# Altium footprint library PCB1.PcbLib: 43 footprints (part 3 of 3)
Each footprint in its own frame and in the unit in brackets; x right, y up, seen from the top. Pads: shape width x height; smd on the part's side, far side on the other; paste and mask are expansions set on the pad; w line width, h text height; cw(c..) or ccw(c..) is an arc to the next point about the centre after c.
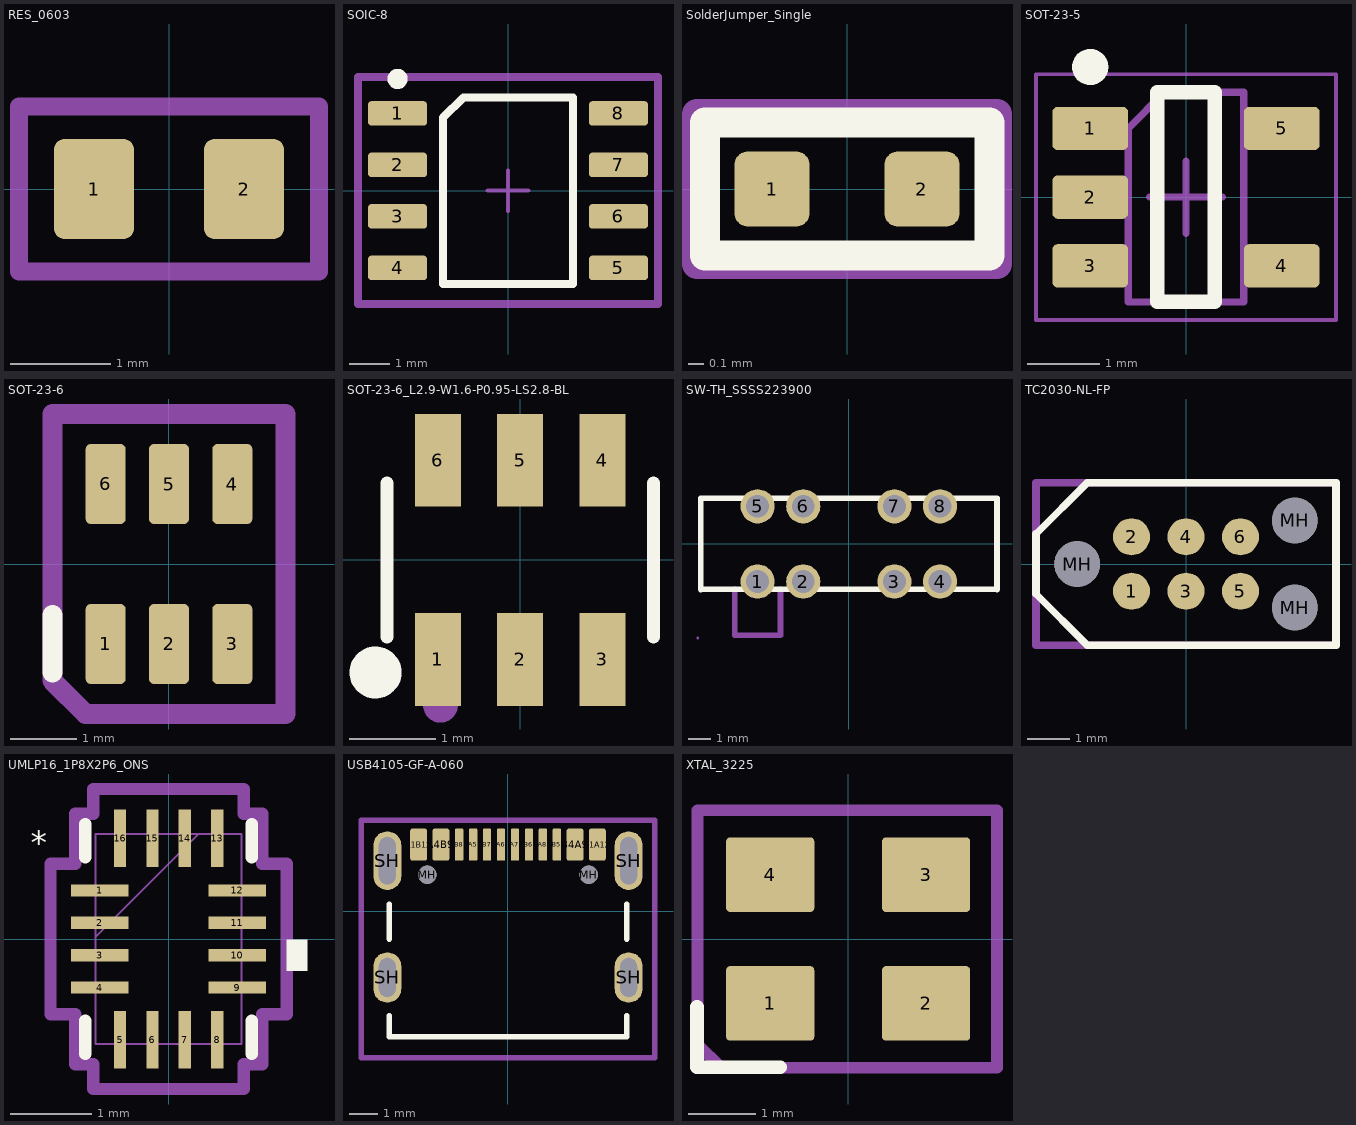
[diagram p2: the footprints below, top view; thin cyan lines are the x and y axes]

## RES_0603 [mm]
pads (2):
  rrect25% 0.8x1 smd: 1(-0.75,0) 2(0.75,0)
Mechanical 13:
  lines w0.175: -1.5,-0.825 1.5,-0.825 1.5,0.825 -1.5,0.825 -1.5,-0.825
  text "'.Designator'" at -5.665,-0.417 h1
3D body "R0603.step": height 0.52, standoff 0.01, extent -0.8,-0.43 0.8,0.43

## SOIC-8 [mm] "SOIC, 8-Leads, Body 4.91x3.90mm, Pitch 1.27mm, IPC Medium Density"
height 1.75
pads (8):
  rrect25% 1.45x0.6 smd: 1(-2.725,1.905) 2(-2.725,0.635) 3(-2.725,-0.635) 4(-2.725,-1.905) 5(2.725,-1.905) 6(2.725,-0.635) 7(2.725,0.635) 8(2.725,1.905)
Top Overlay:
  circle w0.25: c-2.725,2.755 r0.125
  lines w0.2: -1.6,-2.3 1.6,-2.3 1.6,2.3 -1.1,2.3 -1.6,1.8 -1.6,-2.3
Mechanical 13:
  circle w0.3: c-2.7,1.9 r0.12
  lines w0.2: -3.7,-2.8 3.7,-2.8 3.7,2.8 -3.7,2.8 -3.7,-2.8
  text "'.Designator'" at -6.315,-1.4 h1
Mechanical 15:
  lines w0.05: -3.7,-2.75 -3.7,2.75 3.7,2.75 3.7,-2.75 -3.7,-2.75
  lines w0.1: -0.5,0 0.5,0 ; 0,-0.5 0,0.5
3D body "SOIC-8.step": height 1.75, standoff 0, extent -2.997,-2.5 2.997,2.5

## SolderJumper_Single [mm]
pads (2):
  rrect35% 0.5x0.5 smd mask+0: 1(-0.5,0) 2(0.5,0)
Top Overlay:
  lines w0.2: -0.948,-0.444 0.95,-0.444 0.95,0.444 -0.948,0.444 -0.948,0.048 -0.948,-0.444
Top Solder:
  region: -0.5,0.25 0.5,0.25 0.5,-0.25 -0.5,-0.25
Mechanical 13:
  lines w0.2: -1,-0.5 -1,0.5 1,0.5 1,-0.5 -1,-0.5
  text "'.Designator'" at -5.84,-0.925 h1

## SOT-23-5 [mm] "SOT23, 5-Leads, Body 2,90x2,80mm, Pitch 0,95mm, IPC Medium Density"
height 1.45
pads (5):
  rrect25% 1.05x0.6 smd: 1(-1.325,0.95) 2(-1.325,0) 3(-1.325,-0.95) 4(1.325,-0.95) 5(1.325,0.95)
Top Overlay:
  circle w0.25: c-1.325,1.8 r0.125
  lines w0.2: -0.4,-1.45 -0.4,1.45 0.4,1.45 0.4,-1.45 -0.4,-1.45
Mechanical 13:
  lines w0.1: -0.8,-1.45 0.8,-1.45 0.8,1.45 -0.3,1.45 -0.8,0.95 -0.8,-1.45
Mechanical 15:
  lines w0.05: -2.075,-1.7 2.075,-1.7 2.075,1.7 -2.075,1.7 -2.075,-1.7
  lines w0.1: -0.5,0 0.5,0 ; 0,-0.5 0,0.5
3D body "SOT95P280X145-5N.step": height 1.45, standoff 0, extent -1.4,-1.45 1.4,1.45

## SOT-23-6 [mm]
pads (6):
  rrect25% 0.6x1.2 smd: 1(-0.95,-1.2) 2(0,-1.2) 3(0.95,-1.2) 4(0.95,1.2) 5(0,1.2) 6(-0.95,1.2)
Top Overlay:
  lines w0.3: -1.75,-1.628 -1.75,-0.761
Mechanical 13:
  lines w0.3: -1.75,-1.75 -1.75,0 -1.75,2.25 1.75,2.25 1.75,-2.25 -1.25,-2.25 -1.75,-1.75
3D body "SOT23-6.step": height 1.45, standoff 0, extent -1.45,-1.4 1.45,1.4

## SOT-23-6_L2.9-W1.6-P0.95-LS2.8-BL [mm]
pads (6):
  rect 0.53x1.07 smd: 1(-0.95,-1.15) 2(0,-1.15) 3(0.95,-1.15) 4(0.95,1.15) 5(0,1.15) 6(-0.95,1.15)
Top Overlay:
  circle w0.3: c-1.67,-1.3 r0.15
  lines w0.15: -1.54,-0.89 -1.54,0.89 ; 1.54,-0.89 1.54,0.89
Mechanical 6:
  circle w0.06: c-1.46,-1.4 r0.03
  text "'.Designator'" at -3.683,2.54 h1
Mechanical 7:
  circle w0.2: c-0.92,-1.68 r0.1
3D body "SOT-23-6_L2.9-W1.6-H1.5-LS2.8-P0.95.step": height 1.6, standoff -0.05, extent -1.45,-1.406 1.45,1.406

## SW-TH_SSSS223900 [mm]
pads (8):
  round 1.5 hole 1: 1(-4,-1.65) 2(-2,-1.65) 3(2,-1.65) 4(4,-1.65) 5(-4,1.65) 6(-2,1.65) 7(2,1.65) 8(4,1.65)
Top Overlay:
  lines w0.25: 6.5,-2 6.5,2 -6.5,2 -6.5,-2 6.5,-1.99
Mechanical 6:
  circle w0.4: c4,1.65 r0.2
  circle w0.4: c2,1.65 r0.2
  circle w0.4: c-2,1.65 r0.2
  circle w0.4: c-4,1.65 r0.2
  circle w0.4: c4,-1.65 r0.2
  circle w0.4: c-2,-1.65 r0.2
  circle w0.4: c2,-1.65 r0.2
  circle w0.4: c-4,-1.65 r0.2
  circle w0.06: c-6.63,-4.13 r0.03
  lines w0.25: -5,-2 -5,-4 -3,-4 -3,-2
3D body "SW-TH_SSSS223900.step": height 3.31, standoff -3.19, extent -6.65,-3.664 6.35,1.886

## TC2030-NL-FP [mil]
pads (9):
  round 33.98 smd paste-16.99: 1(-50,-25) 2(-50,25) 3(0,-25) 4(0,25) 5(50,-25) 6(50,25)
  round 42.01 hole 42.01 unplated: MH(-100,0) MH(100,-40) MH(100,40)
Top Overlay:
  lines w6.89: -137.8,-27.56 -90.55,-74.8 137.8,-74.8 137.8,74.8 -90.55,74.8 -137.8,27.56 -137.8,-27.56
Mechanical 13:
  lines w6.89: -137.8,-74.8 137.8,-74.8 137.8,74.8 -137.8,74.8 -137.8,-74.8
  text "'.Designator'" at -339.89,-24.99 h60

## UMLP16_1P8X2P6_ONS [mil]
pads (16):
  rect 28x6 smd paste+0 mask+0: 1(-33.5,23.62) 2(-33.5,7.87) 3(-33.5,-7.87) 4(-33.5,-23.62) 9(33.5,-23.62) 10(33.5,-7.87) 11(33.5,7.87) 12(33.5,23.62)
  rect 6x28 smd paste+0 mask+0: 5(-23.62,-49) 6(-7.87,-49) 7(7.87,-49) 8(23.62,-49) 13(23.62,49) 14(7.87,49) 15(-7.87,49) 16(-23.62,49)
Top Overlay:
  region: 57.5,-0.37 67.5,-0.37 67.5,-15.37 57.5,-15.37
  lines w6: -40.5,-56 -40.5,-39.72 ; -40.5,39.72 -40.5,56 ; 40.5,-56 40.5,-39.72 ; 40.5,39.72 40.5,56
  text "*" at -67.13,41 h11.81
Mechanical 13:
  lines w1: -35.5,1 14.5,51 ; -35.5,-51 -35.5,51 35.5,51 35.5,-51 -35.5,-51 ; -35.5,-27.62 -35.5,-19.62 -35.5,-27.62 ; -35.5,-11.87 -35.5,-3.87 -35.5,-11.87 ; -35.5,3.87 -35.5,11.87 -35.5,3.87 ; -35.5,19.62 -35.5,27.62 -35.5,19.62 ; -27.62,-51 -19.62,-51 -27.62,-51 ; -27.62,51 -19.62,51 -27.62,51 ; -11.87,-51 -3.87,-51 -11.87,-51 ; -11.87,51 -3.87,51 -11.87,51 ; 3.87,-51 11.87,-51 3.87,-51 ; 3.87,51 11.87,51 3.87,51 ; 19.62,-51 27.62,-51 19.62,-51 ; 19.62,51 27.62,51 19.62,51 ; 35.5,-27.62 35.5,-19.62 35.5,-27.62 ; 35.5,-11.87 35.5,-3.87 35.5,-11.87 ; 35.5,3.87 35.5,11.87 35.5,3.87 ; 35.5,19.62 35.5,27.62 35.5,19.62
Mechanical 15:
  lines w6: -57.5,-36.62 -57.5,36.62 -45.5,36.62 -45.5,61 -36.62,61 -36.62,73 36.62,73 36.62,61 45.5,61 45.5,36.62 57.5,36.62 57.5,-36.62 45.5,-36.62 45.5,-61 36.62,-61 36.62,-73 -36.62,-73 -36.62,-61 -45.5,-61 -45.5,-36.62 -57.5,-36.62
3D body "UMLP16_1P8X2P6_ONS.step": height 20.12, standoff 0, extent -35.51,-50.98 35.51,50.98

## USB4105-GF-A-060 [mm]
pads (18):
  rrect25% 0.6x1.15 smd mask+0.05: A1B12(-3.2,2.378) A4B9(-2.4,2.378) B1A12(3.2,2.378) B4A9(2.4,2.378)
  rrect25% 0.3x1.15 smd mask+0.05: A5(-1.25,2.378) A6(-0.25,2.378) A7(0.25,2.378) A8(1.25,2.378) B5(1.75,2.378) B6(0.75,2.378) B7(-0.75,2.378) B8(-1.75,2.378)
  round 0.65 hole 0.65 unplated mask+0.05: MH(-2.89,1.303) MH(2.89,1.303)
  oval 1x1.8 hole 0.6 slot 1.4 at 90 deg: SH(-4.32,-2.377) SH(4.32,-2.377)
  oval 1x2.1 hole 0.6 slot 1.7 at 90 deg: SH(-4.32,1.803) SH(4.32,1.803)
Top Overlay:
  lines w0.2: -4.25,-3.75 -4.25,-4.5 4.25,-4.5 4.25,-3.75 ; -4.25,-1 -4.25,0.25 ; 4.25,-1 4.25,0.25
Mechanical 13:
  lines w0.2: -5.25,-5.25 -5.25,-3 -5.25,3.25 5.25,3.25 5.25,-5.25 -5.25,-5.25
  text "'.Designator'" at -5.84,-0.925 h1
3D body "USB4105-GF-A-060.stp": height 3.27, standoff -0.61, extent -4.47,-4.972 4.47,2.728

## XTAL_3225 [mm]
pads (4):
  rrect10% 1.3x1.1 smd: 1(-1.15,-0.95) 2(1.15,-0.95) 3(1.15,0.95) 4(-1.15,0.95)
Top Overlay:
  lines w0.2: -2.231,-1 -2.231,-1.893 -1,-1.893
Mechanical 13:
  circle w0.254: c-1.15,-0.95 r0.112
  lines w0.175: -0.478,1.903 2.197,1.903 2.197,-1.9 -1.875,-1.9 -2.225,-1.55 -2.225,1.903 0.472,1.903
  text "'.Designator'" at -5.665,-0.417 h1
3D body "Y3225.step": height 0.61, standoff 0, extent -1.6,-1.275 1.6,1.225